# Altium integrated library WCAP-ASLI_rev15a.intlib: 107 symbols (part 3 of 3)
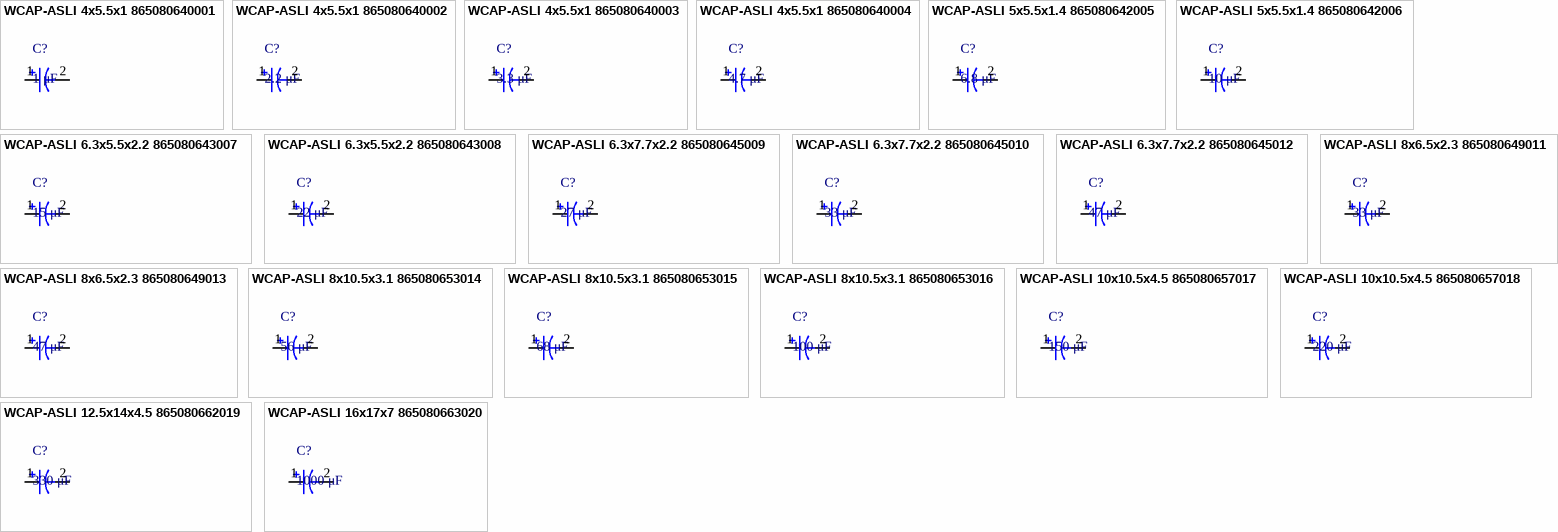
[diagram p7: symbols WCAP-ASLI 4x5.5x1 865080640001 to WCAP-ASLI 16x17x7 865080663020]

## WCAP-ASLI 4x5.5x1 865080640004
designator C?, comment 4.7 μF
WCAP-ASLI Aluminum Electrolytic Capacitors , 4,7 μF; + / - 20%; 50 V , 4 x 5,5; Manufacturer: Wurth Elektronik; partNo: 865080640004; E-mail: libraries@we-online.com; Characteristics: Aluminum Electrolytic Capacitor;Recommended soldering: Reflow;Operating temperature: –55 °C to +105 °C;Low impedance product series;Load life: 2000 h @ +105 °C; ComponentLink1Description: Manufacturer; ComponentLink1URL: http://www.we-online.com; ComponentLink2Description: Datasheet; ComponentLink2URL: http://katalog.we-online.de/pbs/datasheet/865080640004.pdf; Created by: Karrer Zheng; Created Date: 5/13/2015; Capacitance: 4.7 μF; Application: Energy storage or high frequency filtering in the low voltage circuit; used as power supply filtering in general switching power supply, DC-DC converter, AC-DC converter, conversion adapter, charger, TV, VCR, DC motor circuit filter, digital audio, digital TV, digital camera, digital video camera, satellite receiver, equipment control panel and etc.
footprint WCAP-ASLI 4x5.5x1
pins: 1, 2

## WCAP-ASLI 5x5.5x1.4 865080642005
designator C?, comment 6.8 μF
WCAP-ASLI Aluminum Electrolytic Capacitors , 6,8 μF; + / - 20%; 50 V , 5 x 5,5; Manufacturer: Wurth Elektronik; partNo: 865080642005; E-mail: libraries@we-online.com; Characteristics: Aluminum Electrolytic Capacitor;Recommended soldering: Reflow;Operating temperature: –55 °C to +105 °C;Low impedance product series;Load life: 2000 h @ +105 °C; ComponentLink1Description: Manufacturer; ComponentLink1URL: http://www.we-online.com; ComponentLink2Description: Datasheet; ComponentLink2URL: http://katalog.we-online.de/pbs/datasheet/865080642005.pdf; Created by: Karrer Zheng; Created Date: 5/13/2015; Capacitance: 6.8 μF; Application: Energy storage or high frequency filtering in the low voltage circuit; used as power supply filtering in general switching power supply, DC-DC converter, AC-DC converter, conversion adapter, charger, TV, VCR, DC motor circuit filter, digital audio, digital TV, digital camera, digital video camera, satellite receiver, equipment control panel and etc.
footprint WCAP-ASLI 5x5.5x1.4
pins: 1, 2

## WCAP-ASLI 5x5.5x1.4 865080642006
designator C?, comment 10 μF
WCAP-ASLI Aluminum Electrolytic Capacitors , 10 μF; + / - 20%; 50 V , 5 x 5,5; Manufacturer: Wurth Elektronik; partNo: 865080642006; E-mail: libraries@we-online.com; Characteristics: Aluminum Electrolytic Capacitor;Recommended soldering: Reflow;Operating temperature: –55 °C to +105 °C;Low impedance product series;Load life: 2000 h @ +105 °C; ComponentLink1Description: Manufacturer; ComponentLink1URL: http://www.we-online.com; ComponentLink2Description: Datasheet; ComponentLink2URL: http://katalog.we-online.de/pbs/datasheet/865080642006.pdf; Created by: Karrer Zheng; Created Date: 5/13/2015; Capacitance: 10 μF; Application: Energy storage or high frequency filtering in the low voltage circuit; used as power supply filtering in general switching power supply, DC-DC converter, AC-DC converter, conversion adapter, charger, TV, VCR, DC motor circuit filter, digital audio, digital TV, digital camera, digital video camera, satellite receiver, equipment control panel and etc.
footprint WCAP-ASLI 5x5.5x1.4
pins: 1, 2

## WCAP-ASLI 6.3x5.5x2.2 865080643007
designator C?, comment 15 μF
WCAP-ASLI Aluminum Electrolytic Capacitors , 15 μF; + / - 20%; 50 V , 6,3 x 5,5; Manufacturer: Wurth Elektronik; partNo: 865080643007; E-mail: libraries@we-online.com; Characteristics: Aluminum Electrolytic Capacitor;Recommended soldering: Reflow;Operating temperature: –55 °C to +105 °C;Low impedance product series;Load life: 2000 h @ +105 °C; ComponentLink1Description: Manufacturer; ComponentLink1URL: http://www.we-online.com; ComponentLink2Description: Datasheet; ComponentLink2URL: http://katalog.we-online.de/pbs/datasheet/865080643007.pdf; Created by: Karrer Zheng; Created Date: 5/13/2015; Capacitance: 15 μF; Application: Energy storage or high frequency filtering in the low voltage circuit; used as power supply filtering in general switching power supply, DC-DC converter, AC-DC converter, conversion adapter, charger, TV, VCR, DC motor circuit filter, digital audio, digital TV, digital camera, digital video camera, satellite receiver, equipment control panel and etc.
footprint WCAP-ASLI 6.3x5.5x2.2
pins: 1, 2

## WCAP-ASLI 6.3x5.5x2.2 865080643008
designator C?, comment 22 μF
WCAP-ASLI Aluminum Electrolytic Capacitors , 22 μF; + / - 20%; 50 V , 6,3 x 5,5; Manufacturer: Wurth Elektronik; partNo: 865080643008; E-mail: libraries@we-online.com; Characteristics: Aluminum Electrolytic Capacitor;Recommended soldering: Reflow;Operating temperature: –55 °C to +105 °C;Low impedance product series;Load life: 2000 h @ +105 °C; ComponentLink1Description: Manufacturer; ComponentLink1URL: http://www.we-online.com; ComponentLink2Description: Datasheet; ComponentLink2URL: http://katalog.we-online.de/pbs/datasheet/865080643008.pdf; Created by: Karrer Zheng; Created Date: 5/13/2015; Capacitance: 22 μF; Application: Energy storage or high frequency filtering in the low voltage circuit; used as power supply filtering in general switching power supply, DC-DC converter, AC-DC converter, conversion adapter, charger, TV, VCR, DC motor circuit filter, digital audio, digital TV, digital camera, digital video camera, satellite receiver, equipment control panel and etc.
footprint WCAP-ASLI 6.3x5.5x2.2
pins: 1, 2

## WCAP-ASLI 6.3x7.7x2.2 865080645009
designator C?, comment 27 μF
WCAP-ASLI Aluminum Electrolytic Capacitors , 27 μF; + / - 20%; 50 V , 6,3 x 7,7; Manufacturer: Wurth Elektronik; partNo: 865080645009; E-mail: libraries@we-online.com; Characteristics: Aluminum Electrolytic Capacitor;Recommended soldering: Reflow;Operating temperature: –55 °C to +105 °C;Low impedance product series;Load life: 2000 h @ +105 °C; ComponentLink1Description: Manufacturer; ComponentLink1URL: http://www.we-online.com; ComponentLink2Description: Datasheet; ComponentLink2URL: http://katalog.we-online.de/pbs/datasheet/865080645009.pdf; Created by: Karrer Zheng; Created Date: 5/13/2015; Capacitance: 27 μF; Application: Energy storage or high frequency filtering in the low voltage circuit; used as power supply filtering in general switching power supply, DC-DC converter, AC-DC converter, conversion adapter, charger, TV, VCR, DC motor circuit filter, digital audio, digital TV, digital camera, digital video camera, satellite receiver, equipment control panel and etc.
footprint WCAP-ASLI 6.3x7.7x2.2
pins: 1, 2

## WCAP-ASLI 6.3x7.7x2.2 865080645010
designator C?, comment 33 μF
WCAP-ASLI Aluminum Electrolytic Capacitors , 33 μF; + / - 20%; 50 V , 6,3 x 7,7; Manufacturer: Wurth Elektronik; partNo: 865080645010; E-mail: libraries@we-online.com; Characteristics: Aluminum Electrolytic Capacitor;Recommended soldering: Reflow;Operating temperature: –55 °C to +105 °C;Low impedance product series;Load life: 2000 h @ +105 °C; ComponentLink1Description: Manufacturer; ComponentLink1URL: http://www.we-online.com; ComponentLink2Description: Datasheet; ComponentLink2URL: http://katalog.we-online.de/pbs/datasheet/865080645010.pdf; Created by: Karrer Zheng; Created Date: 5/13/2015; Capacitance: 33 μF; Application: Energy storage or high frequency filtering in the low voltage circuit; used as power supply filtering in general switching power supply, DC-DC converter, AC-DC converter, conversion adapter, charger, TV, VCR, DC motor circuit filter, digital audio, digital TV, digital camera, digital video camera, satellite receiver, equipment control panel and etc.
footprint WCAP-ASLI 6.3x7.7x2.2
pins: 1, 2

## WCAP-ASLI 6.3x7.7x2.2 865080645012
designator C?, comment 47 μF
WCAP-ASLI Aluminum Electrolytic Capacitors , 47 μF; + / - 20%; 50 V , 6,3 x 7,7; Manufacturer: Wurth Elektronik; partNo: 865080645012; E-mail: libraries@we-online.com; Characteristics: Aluminum Electrolytic Capacitor;Recommended soldering: Reflow;Operating temperature: –55 °C to +105 °C;Low impedance product series;Load life: 2000 h @ +105 °C; ComponentLink1Description: Manufacturer; ComponentLink1URL: http://www.we-online.com; ComponentLink2Description: Datasheet; ComponentLink2URL: http://katalog.we-online.de/pbs/datasheet/865080645012.pdf; Created by: Karrer Zheng; Created Date: 5/13/2015; Capacitance: 47 μF; Application: Energy storage or high frequency filtering in the low voltage circuit; used as power supply filtering in general switching power supply, DC-DC converter, AC-DC converter, conversion adapter, charger, TV, VCR, DC motor circuit filter, digital audio, digital TV, digital camera, digital video camera, satellite receiver, equipment control panel and etc.
footprint WCAP-ASLI 6.3x7.7x2.2
pins: 1, 2

## WCAP-ASLI 8x6.5x2.3 865080649011
designator C?, comment 33 μF
WCAP-ASLI Aluminum Electrolytic Capacitors , 33 μF; + / - 20%; 50 V , 8 x 6,5; Manufacturer: Wurth Elektronik; partNo: 865080649011; E-mail: libraries@we-online.com; Characteristics: Aluminum Electrolytic Capacitor;Recommended soldering: Reflow;Operating temperature: –55 °C to +105 °C;Low impedance product series;Load life: 2000 h @ +105 °C; ComponentLink1Description: Manufacturer; ComponentLink1URL: http://www.we-online.com; ComponentLink2Description: Datasheet; ComponentLink2URL: http://katalog.we-online.de/pbs/datasheet/865080649011.pdf; Created by: Karrer Zheng; Created Date: 5/13/2015; Capacitance: 33 μF; Application: Energy storage or high frequency filtering in the low voltage circuit; used as power supply filtering in general switching power supply, DC-DC converter, AC-DC converter, conversion adapter, charger, TV, VCR, DC motor circuit filter, digital audio, digital TV, digital camera, digital video camera, satellite receiver, equipment control panel and etc.
footprint WCAP-ASLI 8x6.5x2.3
pins: 1, 2

## WCAP-ASLI 8x6.5x2.3 865080649013
designator C?, comment 47 μF
WCAP-ASLI Aluminum Electrolytic Capacitors , 47 μF; + / - 20%; 50 V , 8 x 6,5; Manufacturer: Wurth Elektronik; partNo: 865080649013; E-mail: libraries@we-online.com; Characteristics: Aluminum Electrolytic Capacitor;Recommended soldering: Reflow;Operating temperature: –55 °C to +105 °C;Low impedance product series;Load life: 2000 h @ +105 °C; ComponentLink1Description: Manufacturer; ComponentLink1URL: http://www.we-online.com; ComponentLink2Description: Datasheet; ComponentLink2URL: http://katalog.we-online.de/pbs/datasheet/865080649013.pdf; Created by: Karrer Zheng; Created Date: 5/13/2015; Capacitance: 47 μF; Application: Energy storage or high frequency filtering in the low voltage circuit; used as power supply filtering in general switching power supply, DC-DC converter, AC-DC converter, conversion adapter, charger, TV, VCR, DC motor circuit filter, digital audio, digital TV, digital camera, digital video camera, satellite receiver, equipment control panel and etc.
footprint WCAP-ASLI 8x6.5x2.3
pins: 1, 2

## WCAP-ASLI 8x10.5x3.1 865080653014
designator C?, comment 56 μF
WCAP-ASLI Aluminum Electrolytic Capacitors , 56 μF; + / - 20%; 50 V , 8 x 10,5; Manufacturer: Wurth Elektronik; partNo: 865080653014; E-mail: libraries@we-online.com; Characteristics: Aluminum Electrolytic Capacitor;Recommended soldering: Reflow;Operating temperature: –55 °C to +105 °C;Low impedance product series;Load life: 2000 h @ +105 °C; ComponentLink1Description: Manufacturer; ComponentLink1URL: http://www.we-online.com; ComponentLink2Description: Datasheet; ComponentLink2URL: http://katalog.we-online.de/pbs/datasheet/865080653014.pdf; Created by: Karrer Zheng; Created Date: 5/13/2015; Capacitance: 56 μF; Application: Energy storage or high frequency filtering in the low voltage circuit; used as power supply filtering in general switching power supply, DC-DC converter, AC-DC converter, conversion adapter, charger, TV, VCR, DC motor circuit filter, digital audio, digital TV, digital camera, digital video camera, satellite receiver, equipment control panel and etc.
footprint WCAP-ASLI 8x10.5x3.1
pins: 1, 2

## WCAP-ASLI 8x10.5x3.1 865080653015
designator C?, comment 68 μF
WCAP-ASLI Aluminum Electrolytic Capacitors , 68 μF; + / - 20%; 50 V , 8 x 10,5; Manufacturer: Wurth Elektronik; partNo: 865080653015; E-mail: libraries@we-online.com; Characteristics: Aluminum Electrolytic Capacitor;Recommended soldering: Reflow;Operating temperature: –55 °C to +105 °C;Low impedance product series;Load life: 2000 h @ +105 °C; ComponentLink1Description: Manufacturer; ComponentLink1URL: http://www.we-online.com; ComponentLink2Description: Datasheet; ComponentLink2URL: http://katalog.we-online.de/pbs/datasheet/865080653015.pdf; Created by: Karrer Zheng; Created Date: 5/13/2015; Capacitance: 68 μF; Application: Energy storage or high frequency filtering in the low voltage circuit; used as power supply filtering in general switching power supply, DC-DC converter, AC-DC converter, conversion adapter, charger, TV, VCR, DC motor circuit filter, digital audio, digital TV, digital camera, digital video camera, satellite receiver, equipment control panel and etc.
footprint WCAP-ASLI 8x10.5x3.1
pins: 1, 2

## WCAP-ASLI 8x10.5x3.1 865080653016
designator C?, comment 100 μF
WCAP-ASLI Aluminum Electrolytic Capacitors , 100 μF; + / - 20%; 50 V , 8 x 10,5; Manufacturer: Wurth Elektronik; partNo: 865080653016; E-mail: libraries@we-online.com; Characteristics: Aluminum Electrolytic Capacitor;Recommended soldering: Reflow;Operating temperature: –55 °C to +105 °C;Low impedance product series;Load life: 2000 h @ +105 °C; ComponentLink1Description: Manufacturer; ComponentLink1URL: http://www.we-online.com; ComponentLink2Description: Datasheet; ComponentLink2URL: http://katalog.we-online.de/pbs/datasheet/865080653016.pdf; Created by: Karrer Zheng; Created Date: 5/13/2015; Capacitance: 100 μF; Application: Energy storage or high frequency filtering in the low voltage circuit; used as power supply filtering in general switching power supply, DC-DC converter, AC-DC converter, conversion adapter, charger, TV, VCR, DC motor circuit filter, digital audio, digital TV, digital camera, digital video camera, satellite receiver, equipment control panel and etc.
footprint WCAP-ASLI 8x10.5x3.1
pins: 1, 2

## WCAP-ASLI 10x10.5x4.5 865080657017
designator C?, comment 150 μF
WCAP-ASLI Aluminum Electrolytic Capacitors , 150 μF; + / - 20%; 50 V , 10 x 10,5; Manufacturer: Wurth Elektronik; partNo: 865080657017; E-mail: libraries@we-online.com; Characteristics: Aluminum Electrolytic Capacitor;Recommended soldering: Reflow;Operating temperature: –55 °C to +105 °C;Low impedance product series;Load life: 2000 h @ +105 °C; ComponentLink1Description: Manufacturer; ComponentLink1URL: http://www.we-online.com; ComponentLink2Description: Datasheet; ComponentLink2URL: http://katalog.we-online.de/pbs/datasheet/865080657017.pdf; Created by: Karrer Zheng; Created Date: 5/13/2015; Capacitance: 150 μF; Application: Energy storage or high frequency filtering in the low voltage circuit; used as power supply filtering in general switching power supply, DC-DC converter, AC-DC converter, conversion adapter, charger, TV, VCR, DC motor circuit filter, digital audio, digital TV, digital camera, digital video camera, satellite receiver, equipment control panel and etc.
footprint WCAP-ASLI 10x10.5x4.5
pins: 1, 2

## WCAP-ASLI 10x10.5x4.5 865080657018
designator C?, comment 220 μF
WCAP-ASLI Aluminum Electrolytic Capacitors , 220 μF; + / - 20%; 50 V , 10 x 10,5; Manufacturer: Wurth Elektronik; partNo: 865080657018; E-mail: libraries@we-online.com; Characteristics: Aluminum Electrolytic Capacitor;Recommended soldering: Reflow;Operating temperature: –55 °C to +105 °C;Low impedance product series;Load life: 2000 h @ +105 °C; ComponentLink1Description: Manufacturer; ComponentLink1URL: http://www.we-online.com; ComponentLink2Description: Datasheet; ComponentLink2URL: http://katalog.we-online.de/pbs/datasheet/865080657018.pdf; Created by: Karrer Zheng; Created Date: 5/13/2015; Capacitance: 220 μF; Application: Energy storage or high frequency filtering in the low voltage circuit; used as power supply filtering in general switching power supply, DC-DC converter, AC-DC converter, conversion adapter, charger, TV, VCR, DC motor circuit filter, digital audio, digital TV, digital camera, digital video camera, satellite receiver, equipment control panel and etc.
footprint WCAP-ASLI 10x10.5x4.5
pins: 1, 2

## WCAP-ASLI 12.5x14x4.5 865080662019
designator C?, comment 330 μF
WCAP-ASLI Aluminum Electrolytic Capacitors , 330 μF; + / - 20%; 50 V , 12,5 x 14; Manufacturer: Wurth Elektronik; partNo: 865080662019; E-mail: libraries@we-online.com; Characteristics: Aluminum Electrolytic Capacitor;Recommended soldering: Reflow;Operating temperature: –55 °C to +105 °C;Low impedance product series;Load life: 2000 h @ +105 °C; ComponentLink1Description: Manufacturer; ComponentLink1URL: http://www.we-online.com; ComponentLink2Description: Datasheet; ComponentLink2URL: http://katalog.we-online.de/pbs/datasheet/865080662019.pdf; Created by: Karrer Zheng; Created Date: 5/13/2015; Capacitance: 330 μF; Application: Energy storage or high frequency filtering in the low voltage circuit; used as power supply filtering in general switching power supply, DC-DC converter, AC-DC converter, conversion adapter, charger, TV, VCR, DC motor circuit filter, digital audio, digital TV, digital camera, digital video camera, satellite receiver, equipment control panel and etc.
footprint WCAP-ASLI 12.5x14x4.5
pins: 1, 2

## WCAP-ASLI 16x17x7 865080663020
designator C?, comment 1000 μF
WCAP-ASLI Aluminum Electrolytic Capacitors , 1000 μF; + / - 20%; 50 V , 16 x 17; Manufacturer: Wurth Elektronik; partNo: 865080663020; E-mail: libraries@we-online.com; Characteristics: Aluminum Electrolytic Capacitor;Recommended soldering: Reflow;Operating temperature: –55 °C to +105 °C;Low impedance product series;Load life: 2000 h @ +105 °C; ComponentLink1Description: Manufacturer; ComponentLink1URL: http://www.we-online.com; ComponentLink2Description: Datasheet; ComponentLink2URL: http://katalog.we-online.de/pbs/datasheet/865080663020.pdf; Created by: Karrer Zheng; Created Date: 5/13/2015; Capacitance: 1000 μF; Application: Energy storage or high frequency filtering in the low voltage circuit; used as power supply filtering in general switching power supply, DC-DC converter, AC-DC converter, conversion adapter, charger, TV, VCR, DC motor circuit filter, digital audio, digital TV, digital camera, digital video camera, satellite receiver, equipment control panel and etc.
footprint WCAP-ASLI 16x17x7
pins: 1, 2